# Altium footprint library SOP20P65_650X640X120L60X24N.PcbLib: 1 footprints
Each footprint in its own frame and in the unit in brackets; x right, y up, seen from the top. Pads: shape width x height; smd on the part's side, far side on the other; paste and mask are expansions set on the pad; w line width, h text height; cw(c..) or ccw(c..) is an arc to the next point about the centre after c.
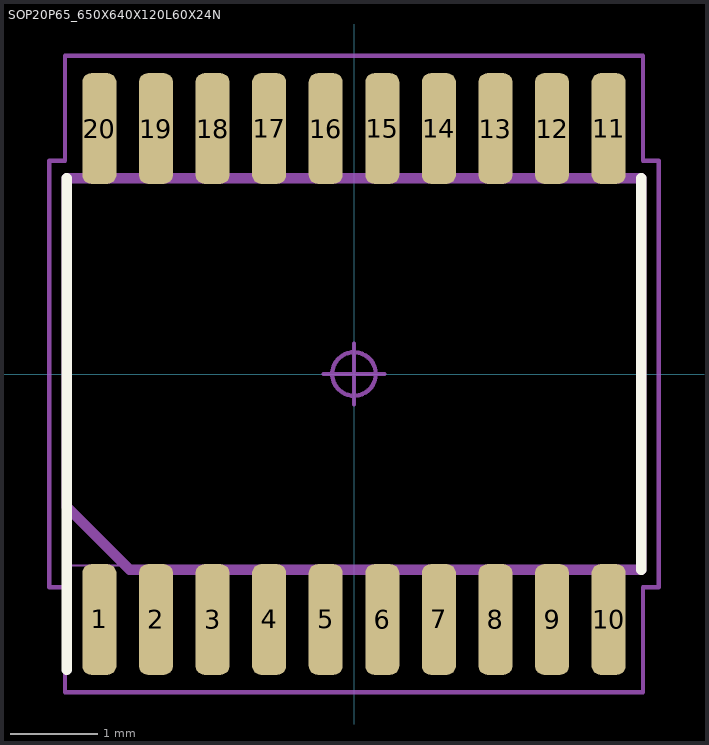
[diagram p0: the footprint, top view; thin cyan lines are the x and y axes]

## SOP20P65_650X640X120L60X24N [mm] "Small Outline Pkg (SOP), 0.65 mm pitch; 20 pin, 6.50 mm L X 4.40 mm W X 1.20 mm H body"
height 1.2
pads (20):
  rrect51% 0.39x1.27 smd: 1(-2.925,-2.82) 2(-2.275,-2.82) 3(-1.625,-2.82) 4(-0.975,-2.82) 5(-0.325,-2.82) 6(0.325,-2.82) 7(0.975,-2.82) 8(1.625,-2.82) 9(2.275,-2.82) 10(2.925,-2.82) 11(2.925,2.82) 12(2.275,2.82) 13(1.625,2.82) 14(0.975,2.82) 15(0.325,2.82) 16(-0.325,2.82) 17(-0.975,2.82) 18(-1.625,2.82) 19(-2.275,2.82) 20(-2.925,2.82)
Top Overlay:
  lines w0.12: -3.3,-3.395 -3.3,-2.25 -3.3,2.25 ; 3.3,-2.25 3.3,2.25
Mechanical 3:
  lines w0.12: -3.3,-1.526 -3.3,2.25 3.3,2.25 3.3,-2.25 -2.576,-2.25 -3.3,-1.526
Mechanical 5:
  lines w0.025: -3.25,-2.2 3.25,-2.2 3.25,2.2 -3.25,2.2 -3.25,-2.2 ; -3.047,-3.2 -3.047,-2.6 -2.802,-2.6 -2.802,-3.2 -3.047,-3.2 ; -3.047,2.6 -3.047,3.2 -2.802,3.2 -2.802,2.6 -3.047,2.6 ; -2.398,-3.2 -2.398,-2.6 -2.153,-2.6 -2.153,-3.2 -2.398,-3.2 ; -2.398,2.6 -2.398,3.2 -2.153,3.2 -2.153,2.6 -2.398,2.6 ; -1.747,-3.2 -1.747,-2.6 -1.502,-2.6 -1.502,-3.2 -1.747,-3.2 ; -1.747,2.6 -1.747,3.2 -1.502,3.2 -1.502,2.6 -1.747,2.6 ; -1.098,-3.2 -1.098,-2.6 -0.853,-2.6 -0.853,-3.2 -1.098,-3.2 ; -1.098,2.6 -1.098,3.2 -0.853,3.2 -0.853,2.6 -1.098,2.6 ; -0.447,-3.2 -0.447,-2.6 -0.202,-2.6 -0.202,-3.2 -0.447,-3.2 ; -0.447,2.6 -0.447,3.2 -0.202,3.2 -0.202,2.6 -0.447,2.6 ; 0.202,-3.2 0.202,-2.6 0.447,-2.6 0.447,-3.2 0.202,-3.2 ; 0.202,2.6 0.202,3.2 0.447,3.2 0.447,2.6 0.202,2.6 ; 0.853,-3.2 0.853,-2.6 1.098,-2.6 1.098,-3.2 0.853,-3.2 ; 0.853,2.6 0.853,3.2 1.098,3.2 1.098,2.6 0.853,2.6 ; 1.502,-3.2 1.502,-2.6 1.747,-2.6 1.747,-3.2 1.502,-3.2 ; 1.502,2.6 1.502,3.2 1.747,3.2 1.747,2.6 1.502,2.6 ; 2.153,-3.2 2.153,-2.6 2.398,-2.6 2.398,-3.2 2.153,-3.2 ; 2.153,2.6 2.153,3.2 2.398,3.2 2.398,2.6 2.153,2.6 ; 2.802,-3.2 2.802,-2.6 3.047,-2.6 3.047,-3.2 2.802,-3.2 ; 2.802,2.6 2.802,3.2 3.047,3.2 3.047,2.6 2.802,2.6
Mechanical 7:
  circle w0.05: c0,0 r0.25
  lines w0.05: -0.35,0 0.35,0 ; 0,-0.35 0,0.35 ; -3.5,-2.45 -3.32,-2.45 -3.32,-3.655 3.32,-3.655 3.32,-2.45 3.5,-2.45 3.5,2.45 3.32,2.45 3.32,3.655 -3.32,3.655 -3.32,2.45 -3.5,2.45 -3.5,-2.45
Mechanical 9:
  text "'.Designator'" at -6.604,-0.254 h1
3D body "SOP20P65_650X640X120L60X24.STEP": height 1.2, standoff 0, extent -3.25,-3.2 3.25,3.2
3D body: height 1.04, standoff 0, extent -3.5,-3.655 3.5,3.655